# EAGLE library part 1X10 (library con-amp-micro-mate-n-lock)
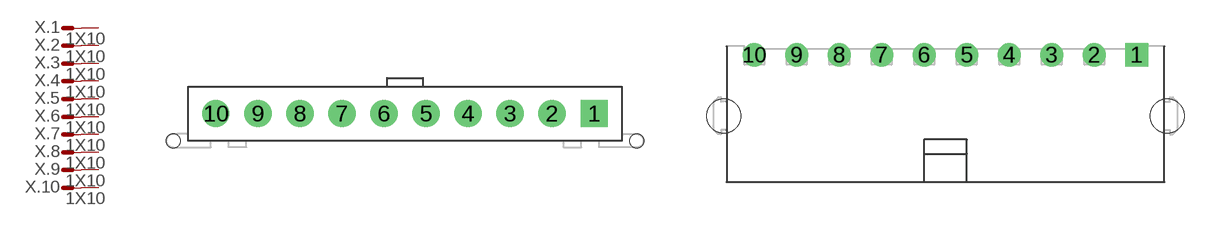
[diagram p3: symbol with the pads of 3-1445050-0; footprints 3-1445050-0, 3-1445054-0]

Designator prefix X; gates .1=M .2=M .3=M .4=M .5=M .6=M .7=M .8=M .9=M .10=M

## 1X10-A  [3-1445050-0]
1  .1:S  pas
2  .2:S  pas
3  .3:S  pas
4  .4:S  pas
5  .5:S  pas
6  .6:S  pas
7  .7:S  pas
8  .8:S  pas
9  .9:S  pas
10  .10:S  pas

## 1X10-B  [3-1445054-0]
Pads as for 3-1445050-0

## 1X10-C  [3-1445055-0]
Pads as for 3-1445050-0

## Footprint 3-1445050-0 (pad centres in mm)
drill 1.1 pad 1.93 square: 1 0,0
drill 1.1 pad 1.93 round: 2 -3,0; 3 -6,0; 4 -9,0; 5 -12,0; 6 -15,0; 7 -18,0; 8 -21,0; 9 -24,0; 10 -27,0
hole 1 at -30.07,-1.96
hole 1 at 3.07,-1.96

## Footprint 3-1445054-0 (pad centres in mm)
drill 1.1 square: 1 0,0
drill 1.1 round: 2 -3,0; 3 -6,0; 4 -9,0; 5 -12,0; 6 -15,0; 7 -18,0; 8 -21,0; 9 -24,0; 10 -27,0
hole 2.4 at 2.15,-4.32
hole 2.4 at -29.15,-4.32

## Footprint 3-1445055-0 (pad centres in mm)
drill 1.1 pad 1.93 square: 1 0,0
drill 1.1 pad 1.93 round: 2 -3,0; 3 -6,0; 4 -9,0; 5 -12,0; 6 -15,0; 7 -18,0; 8 -21,0; 9 -24,0; 10 -27,0
hole 3 at -2.15,-4.32
hole 3 at -24.85,-4.32